# EAGLE library part OPA695IDBVR (library OPA695IDBVR)
Ultra-Wideband, Current-Feedback Operational Amplifier with Disable Source: Datasheet <http://www.ti.com/lit/gpn/OPA695>
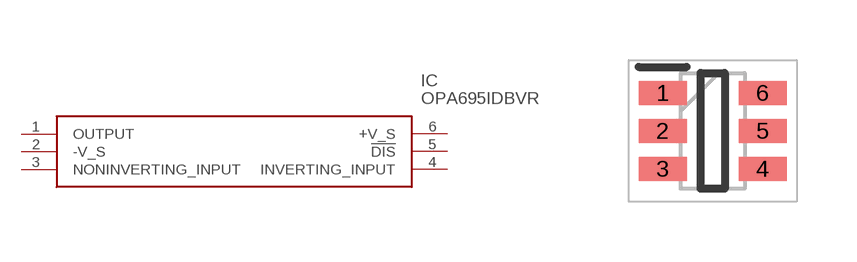
[diagram p0: symbol with the pads of SOT95P280X145-6N; footprint SOT95P280X145-6N]

Designator prefix IC

## OPA695IDBVR (Description: Ultra-Wideband, Current-Feedback Operational Amplifier with Disable; Height: 1.45mm; Manufacturer_Name: Texas Instruments; Manufacturer_Part_Number: OPA695IDBVR; Mouser_Part_Number: 595-OPA695IDBVR; Mouser_Price-Stock: https://www.mouser.co.uk/ProductDetail/Texas-Instruments/OPA695IDBVR?qs=wgAEGBTxy7kDQsczjqd6Hw%3D%3D)  [SOT95P280X145-6N]
1  OUTPUT
2  -V_S
3  NONINVERTING_INPUT
4  INVERTING_INPUT
5  !DIS
6  +V_S

## Footprint SOT95P280X145-6N (pad centres in mm)
DBV (R-PDSO-G6)
smd 1.2 x 0.6: 1 -1.25,0.95; 2 -1.25,0; 3 -1.25,-0.95; 4 1.25,-0.95; 5 1.25,0; 6 1.25,0.95